# Altium schematic symbol library IC Interface.SchLib: 1 symbol
Pins are listed as number, name and electrical type; pins without a type are passive.

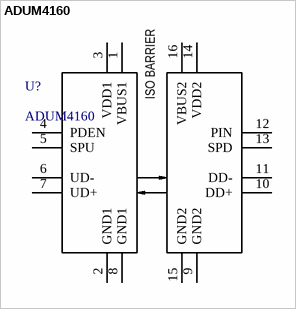
[diagram p0: symbol ADUM4160]

## ADUM4160
designator U?
USB Isolator; Supplier 1: Digi-Key; Supplier Part Number 1: ADUM4160BRWZ-ND
pins: 1 VBUS1, 2 GND1, 3 VDD1, 4 PDEN, 5 SPU, 6 UD-, 7 UD+, 8 GND1, 9 GND2, 10 DD+, 11 DD-, 12 PIN, 13 SPD, 14 VDD2, 15 GND2, 16 VBUS2
text: ISO BARRIER